# EAGLE library part OP-QUAD (library pc-gen)
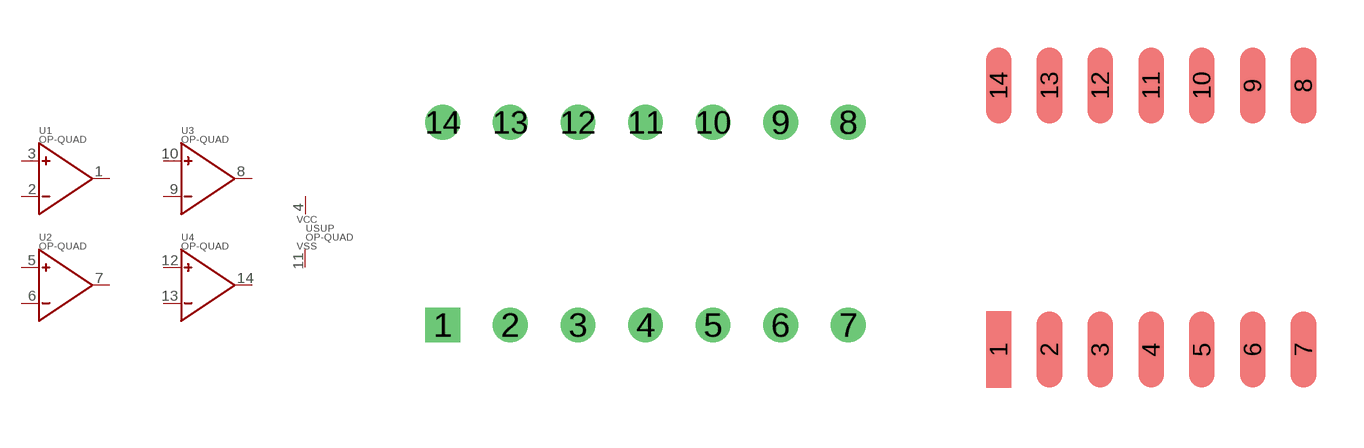
[diagram p0: symbol with the pads of DIL14; footprints DIL14, SO14]

Designator prefix -; gates 1=OP 2=OP 3=OP 4=OP SUP=SUPPLY

## OP-QUADDIL14  [DIL14]
1  1:OUT
2  1:NEG
3  1:POS
4  SUP:VCC
5  2:POS
6  2:NEG
7  2:OUT
8  3:OUT
9  3:NEG
10  3:POS
11  SUP:VSS
12  4:POS
13  4:NEG
14  4:OUT

## OP-QUADSO14  [SO14]
Pads as for DIL14

## Footprint DIL14 (pad centres in mm)
drill 0.8 square: 1 -7.62,-3.81
drill 0.8: 2 -5.08,-3.81; 3 -2.54,-3.81; 4 0,-3.81; 5 2.54,-3.81; 6 5.08,-3.81; 7 7.62,-3.81; 8 7.62,3.81; 9 5.08,3.81; 10 2.54,3.81; 11 0,3.81; 12 -2.54,3.81; 13 -5.08,3.81; 14 -7.62,3.81

## Footprint SO14 (pad centres in mm)
smd 0.635 x 1.905: 1 -3.81,-3.302; 2 -2.54,-3.302; 3 -1.27,-3.302; 4 0,-3.302; 5 1.27,-3.302; 6 2.54,-3.302; 7 3.81,-3.302; 8 3.81,3.302; 9 2.54,3.302; 10 1.27,3.302; 11 0,3.302; 12 -1.27,3.302; 13 -2.54,3.302; 14 -3.81,3.302